# EAGLE library part P2_5,3_2.54S (library pins)
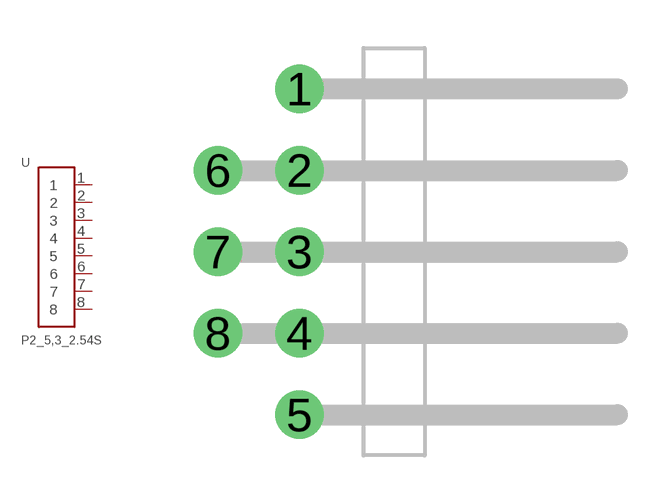
[diagram p2: symbol with the pads of P2_5,3_2.54S; footprint P2_5,3_2.54S]

Designator prefix -

## P2_5,3_2.54S  [P2_5,3_2.54S]
1  1
2  2
3  3
4  4
5  5
6  6
7  7
8  8

## Footprint P2_5,3_2.54S (pad centres in mm)
drill 1: 1 0,5.08; 2 0,2.54; 3 0,0; 4 0,-2.54; 5 0,-5.08; 6 -2.54,2.54; 7 -2.54,0; 8 -2.54,-2.54